# Altium footprint library TPD4E1B06.PcbLib: 2 footprints
Each footprint in its own frame and in the unit in brackets; x right, y up, seen from the top. Pads: shape width x height; smd on the part's side, far side on the other; paste and mask are expansions set on the pad; w line width, h text height; cw(c..) or ccw(c..) is an arc to the next point about the centre after c.
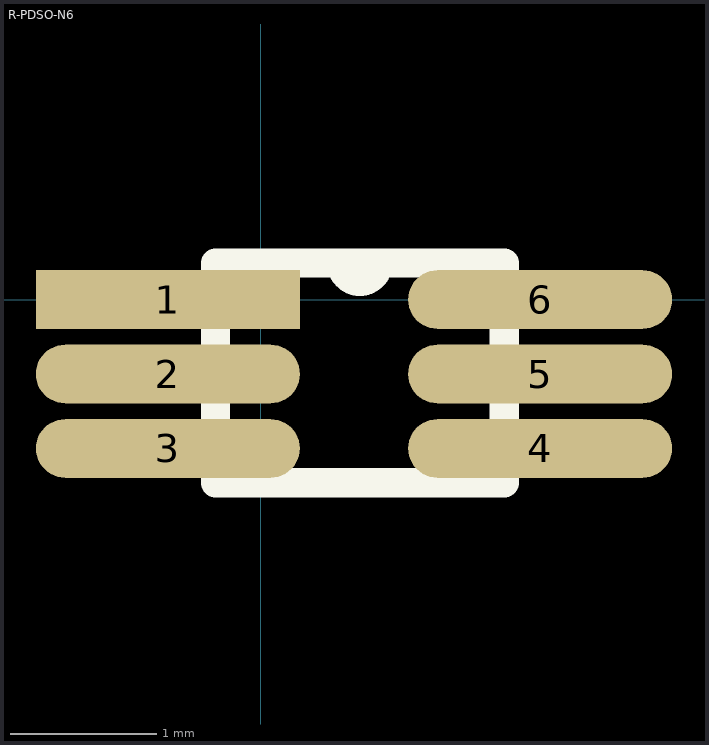
[diagram p0: the footprints below, top view; thin cyan lines are the x and y axes]

## PCBComponent_1 [mil]

## R-PDSO-N6 [mm]
pads (6):
  rect 1.802x0.4 smd: 1(-0.635,0)
  oval 1.802x0.4 smd: 2(-0.635,-0.508) 3(-0.635,-1.016) 4(1.905,-1.016) 5(1.905,-0.508) 6(1.905,0)
Top Overlay:
  lines w0.2: -0.31,-1.25 1.66,-1.25 1.66,0.25 0.55,0.25 ccw(c0.675,0.25) 0.8,0.25 -0.31,0.25 -0.31,-1.25